# Altium footprint library SignalCommunications.PCBLIB: 466 footprints (part 30 of 30)
Each footprint in its own frame and in the unit in brackets; x right, y up, seen from the top. Pads: shape width x height; smd on the part's side, far side on the other; paste and mask are expansions set on the pad; w line width, h text height; cw(c..) or ccw(c..) is an arc to the next point about the centre after c.
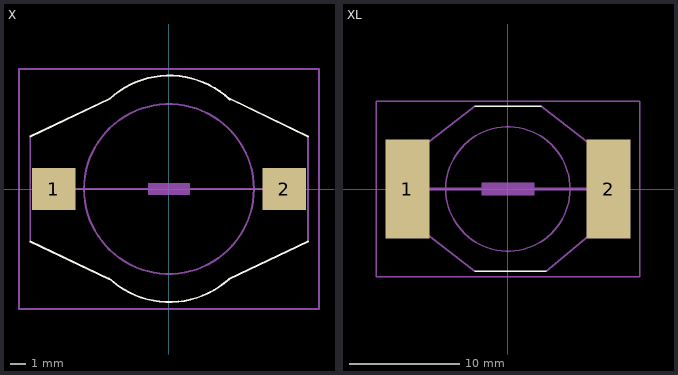
[diagram p29: the footprints below, top view; thin cyan lines are the x and y axes]

## X [mil]
pads (2):
  rect 115x110 smd: 1(-302.56,0) 2(303,0)
Top Overlay:
  lines w5: -364.17,-137.8 -157.48,-236.22 ; -364.17,138 -155.51,237 cw(c1.16,65.62) 160,235 ; -157.48,-234.25 ccw(c1.32,-64.88) 158,-236.22 365,-137.8 ; 160,237 365,138
Mechanical 10:
  circle w5: c0,0 r223
Mechanical 16:
  region: 55.69,-15.43 55.69,16.31 -55.43,16.31 -55.43,-15.43
  lines w5: -364.17,-137.8 -364.17,138 ; -302.56,0 303,0 ; 365,-137.8 365,138
Mechanical 27:
  lines w5: -393.7,-314.96 394,-314.96 394,315 -393.7,315 -393.7,-314.96

## XL [mil]
pads (2):
  rect 158x355 smd: 1(-360.24,0) 2(361,0)
Top Overlay:
  lines w5: -118.11,-295.28 138,-295.28 ; -118.11,296 119,296
Mechanical 10:
  circle w5: c0,0 r223
Mechanical 16:
  region: 94.93,-23.56 94.93,24.07 -94.56,24.07 -94.56,-23.56
  lines w5: -118.11,-295.28 -374.02,-98.43 ; -118.11,296 -374.02,99 ; 119,296 375,99 ; 138,-295.28 375,-98.43 ; -374.02,-98.43 -433.07,-98.43 -433.07,99 -374.02,99 ; -374.02,-98.43 -374.02,99 ; 375,-98.43 375,99 ; 375,-98.43 434,-98.43 434,99 375,99
  lines w12: -360.24,0 361,0
Mechanical 27:
  lines w5: -472.44,-314.96 473,-314.96 473,315 -472.44,315 -472.44,-314.96